# EAGLE library part _SW_2P2T_H_30V_0.3A_TH_(SK22D01MG5NS) (library SamacSys_Parts)
Slide Switches DPDT 0.3 Amp at 30 V Source: Datasheet <https://media.digikey.com/pdf/Data Sheets/C&K/SK-22D01-MG.pdf>
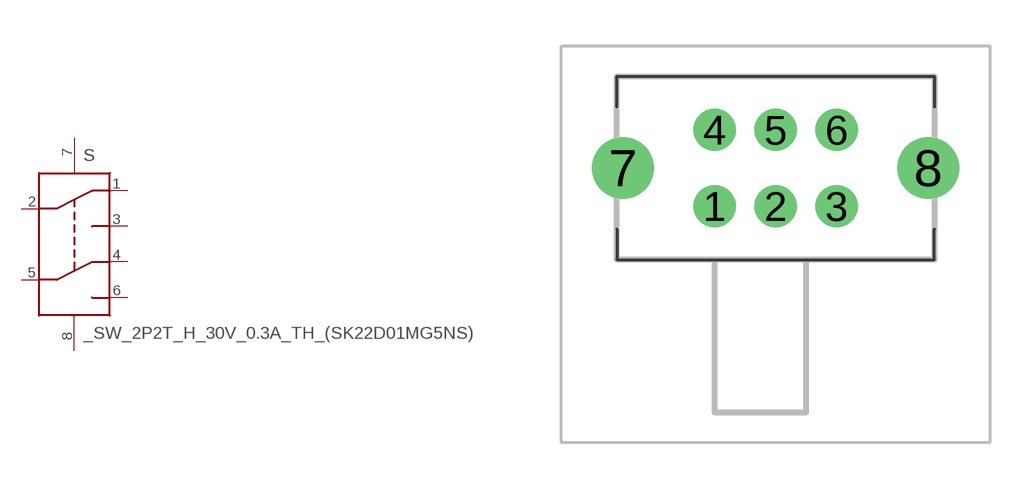
[diagram p43: symbol with the pads of SK22D01MG5NS; footprint SK22D01MG5NS]

Designator prefix S

## _SW_2P2T_H_30V_0.3A_TH_(SK22D01MG5NS) (DESCRIPTION: Slide Switches DPDT 0.3 Amp at 30 V; HEIGHT: 5.1mm; MANUFACTURER_NAME: C & K COMPONENTS; MANUFACTURER_PART_NUMBER: SK-22D01-MG 5 NS; MOUSER_PART_NUMBER: 611-SK-22D01-MG5NS; MOUSER_PRICE-STOCK: https://www.mouser.co.uk/ProductDetail/CK/SK-22D01-MG-5-NS?qs=T%252BgPUmif8%252Bj%2Ffo3NJcSFGw%3D%3D)  [SK22D01MG5NS]
1  NC1
2  C1
3  NO1
4  NC2
5  C2
6  NO2
7  SHIELD1
8  SHIELD2

## Footprint SK22D01MG5NS (pad centres in mm)
SK-22D01-MG 5 NS-2
drill 0.85 pad 1.381: 1 0,0; 2 2,0; 3 4,0; 4 0,2.5; 5 2,2.5; 6 4,2.5
drill 1.35 pad 2.025: 7 -3,1.25; 8 7,1.25